# Altium schematic symbol library Capacitor.SchLib: 18 symbols
Pins are listed as number, name and electrical type; pins without a type are passive.

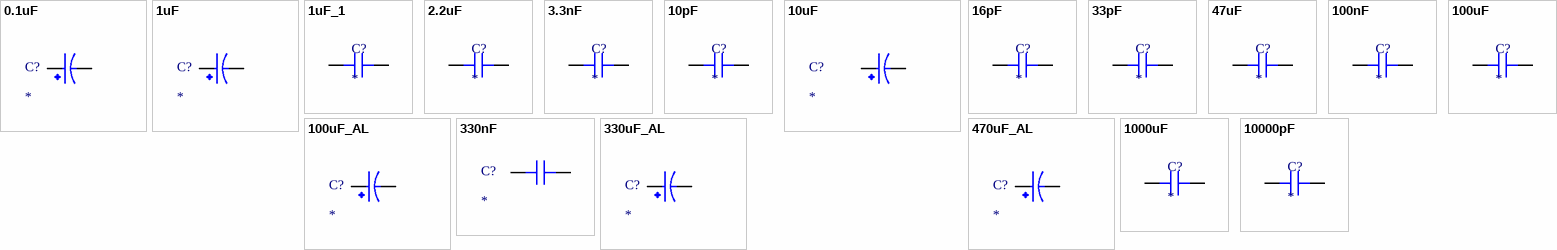
[diagram p0: symbols 0.1uF to 10000pF]

## 0.1uF
designator C?
ELECTROLYTİC LEGGED
footprint 0.1uF CAPACITOR LEGGED
pins: +, -

## 1uF
designator C?
ELECTROLYTİC LEGGED
footprint 1UF CAPACITOR LEGGED
pins: +, -

## 1uF_1
designator C?
CERAMİC 1206 SMD
footprint CAP 0603_1608 (Chip Capacitor, 2-Leads, Body 1.60x0.80mm, IPC Medium Density)
pins: 1, 2

## 2.2uF
designator C?
CERAMİC 1206 SMD
footprint CAP 0603_1608 (Chip Capacitor, 2-Leads, Body 1.60x0.80mm, IPC Medium Density)
pins: 1, 2

## 3.3nF
designator C?
CERAMİC 1206 SMD
footprint CAP 0603_1608 (Chip Capacitor, 2-Leads, Body 1.60x0.80mm, IPC Medium Density)
pins: 1, 2

## 10pF
designator C?
CERAMİC 1206 SMD
footprint CAP 0603_1608 (Chip Capacitor, 2-Leads, Body 1.60x0.80mm, IPC Medium Density)
pins: 1, 2

## 10uF
designator C?
TANTAL
footprint TANTAL B-CASE
pins: +, -

## 16pF
designator C?
CERAMİC 1206 SMD
footprint CAP 0603_1608 (Chip Capacitor, 2-Leads, Body 1.60x0.80mm, IPC Medium Density)
pins: 1, 2

## 33pF
designator C?
CERAMİC 1206 SMD
footprint CAP 0603_1608 (Chip Capacitor, 2-Leads, Body 1.60x0.80mm, IPC Medium Density)
pins: 1, 2

## 47uF
designator C?
CERAMİC 1206 SMD
footprint CAP 0603_1608 (Chip Capacitor, 2-Leads, Body 1.60x0.80mm, IPC Medium Density)
pins: 1, 2

## 100nF
designator C?
CERAMİC 1206 SMD
footprint CAP 0603_1608 (Chip Capacitor, 2-Leads, Body 1.60x0.80mm, IPC Medium Density)
pins: 1, 2

## 100uF
designator C?
CERAMİC 1206 SMD
footprint CERAMIC 1206
pins: 1, 2

## 100uF_AL
designator C?
Aluminium Electrolytic Capacitors; ComponentLink1Description: Vishay; ComponentLink1URL: https://www.mouser.com.tr/datasheet/2/427/136rvi-1762300.pdf
footprint 10x12 Al Cap
pins: 1 +, 2 -

## 330nF
designator C?
CERAMİC 1206 SMD
footprint CERAMIC 1206
pins: 1, 2

## 330uF_AL
designator C?
Aluminium Electrolytic Capacitors; ComponentLink1Description: Vİshay; ComponentLink1URL: https://www.mouser.com.tr/datasheet/2/427/136rvi-1762300.pdf
footprint 10x12 Al Cap
pins: 1 +, 2 -

## 470uF_AL
designator C?
Aluminium Electrolytic Capacitors; ComponentLink1Description: Vishay; ComponentLink1URL: https://www.mouser.com.tr/datasheet/2/427/136rvi-1762300.pdf
footprint 10x12 Al Cap
pins: 1 +, 2 -

## 1000uF
designator C?
CERAMİC 1206 SMD
footprint CERAMIC 1206
pins: 1, 2

## 10000pF
designator C?
CERAMİC 1206 SMD
footprint CAP 0603_1608 (Chip Capacitor, 2-Leads, Body 1.60x0.80mm, IPC Medium Density)
pins: 1, 2